# EAGLE library part OSL40562-IR (library OSL40562-IR)
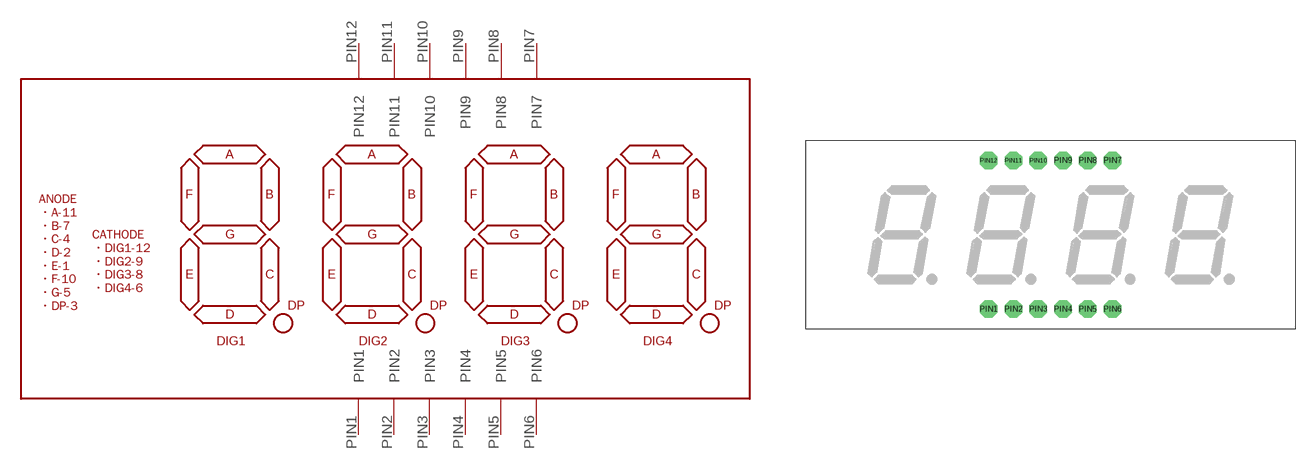
[diagram p0: symbol with the pads of OSL40562-IR; footprint OSL40562-IR]

Designator prefix -

## OSL40562-IR  [OSL40562-IR]
PIN1  PIN1
PIN2  PIN2
PIN3  PIN3
PIN4  PIN4
PIN5  PIN5
PIN6  PIN6
PIN7  PIN7
PIN8  PIN8
PIN9  PIN9
PIN10  PIN10
PIN11  PIN11
PIN12  PIN12

## Footprint OSL40562-IR (pad centres in mm)
drill 1 pad 1.8 octagon: PIN1 -6.35,-7.62; PIN2 -3.81,-7.62; PIN3 -1.27,-7.62; PIN4 1.27,-7.62; PIN5 3.81,-7.62; PIN6 6.35,-7.62; PIN7 6.35,7.62; PIN8 3.81,7.62; PIN9 1.27,7.62; PIN10 -1.27,7.62; PIN11 -3.81,7.62; PIN12 -6.35,7.62